# Altium footprint library Battery supply.PcbLib: 7 footprints
Each footprint in its own frame and in the unit in brackets; x right, y up, seen from the top. Pads: shape width x height; smd on the part's side, far side on the other; paste and mask are expansions set on the pad; w line width, h text height; cw(c..) or ccw(c..) is an arc to the next point about the centre after c.
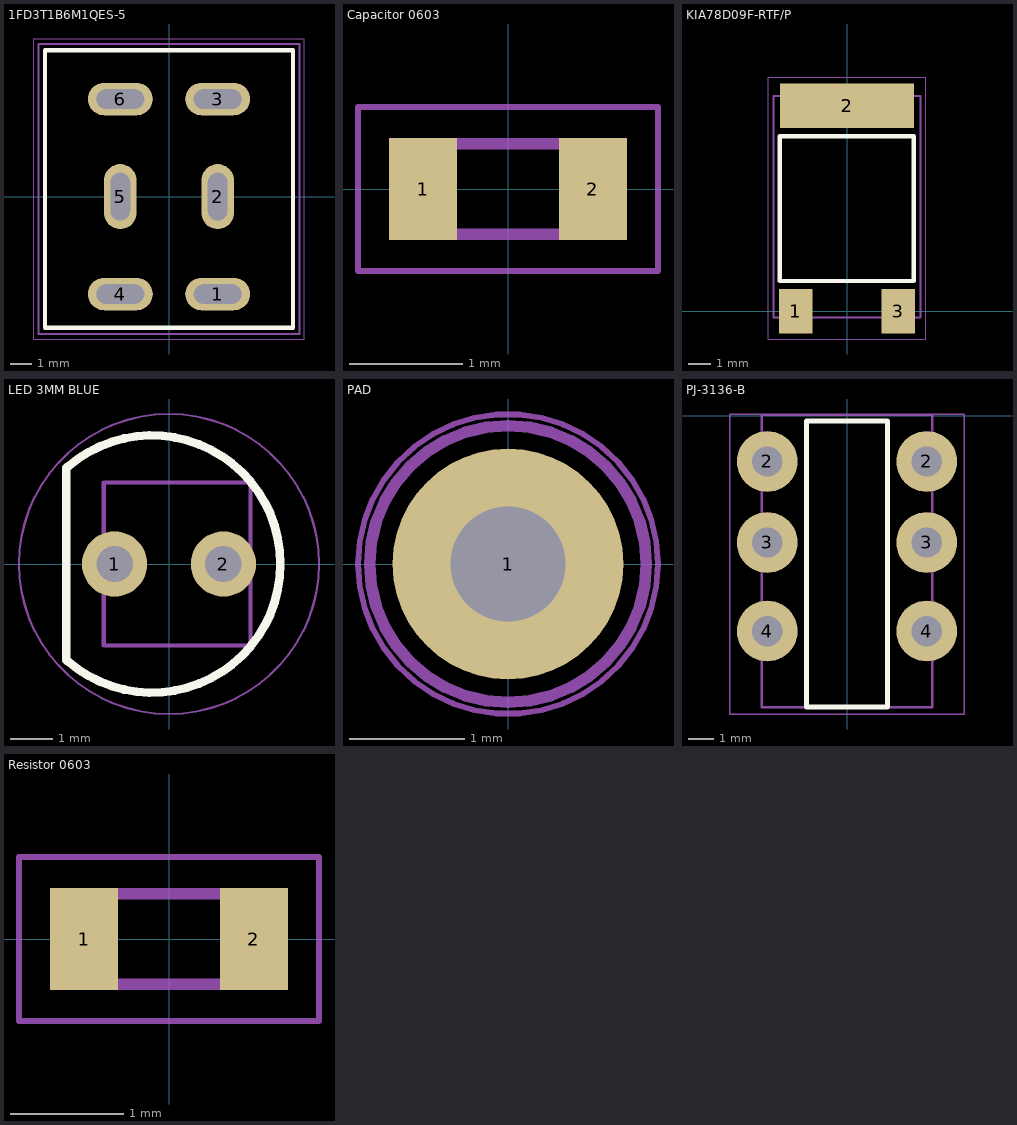
[diagram p0: the footprints below, top view; thin cyan lines are the x and y axes]

## 1FD3T1B6M1QES-5 [mm]
pads (6):
  oval 3x1.5 hole 0.9 slot 2.2 at 0 deg: 1(2.25,-4.5) 3(2.25,4.5) 4(-2.25,-4.5) 6(-2.25,4.5)
  oval 1.5x3 hole 0.9 slot 2.2 at 90 deg: 2(2.25,0) 5(-2.25,0)
Top Overlay:
  lines w0.2: -5.725,-6.05 5.725,-6.05 5.725,6.75 -5.725,6.75 -5.725,-6.05
Mechanical 13:
  lines w0.1: -6.032,-6.349 -6.032,7.05 6.031,7.05 6.031,-6.349 -6.032,-6.349
  text "'.Designator'" at 0.5,-5.4 h1.2
Mechanical 15:
  lines w0.05: -6.25,-6.575 6.25,-6.575 6.25,7.275 -6.25,7.275 -6.25,-6.575
3D body "User Library-DPDT_O_N_O.STEP": height 28.83, standoff -3.17, extent -6.032,-6.35 6.032,7.048

## Capacitor 0603 [mm]
pads (2):
  rect 0.6x0.9 smd: 1(-0.75,0) 2(0.75,0)
Mechanical 13:
  lines w0.1: -0.8,-0.4 -0.8,0.4 0.8,0.4 0.8,-0.4 -0.8,-0.4
  text "'.Designator'" at -0.701,-0.102 h0.3
Mechanical 15:
  lines w0.05: -1.325,-0.725 1.325,-0.725 1.325,0.725 -1.325,0.725 -1.325,-0.725
3D body "User Library-SMD CAPACITOR.step": height 0.8, standoff 0, extent -0.8,-0.4 0.8,0.4

## KIA78D09F-RTF/P [mm]
pads (3):
  rect 1.5x2 smd: 1(-2.3,0) 3(2.3,0)
  rect 6x2 smd: 2(0,9.2)
Top Overlay:
  lines w0.2: -3.025,1.35 3,1.35 3,7.85 -3.025,7.85 -3.025,1.35
Mechanical 13:
  lines w0.1: -3.29,-0.29 -3.29,9.65 3.29,9.65 3.29,-0.29 -3.29,-0.29
  text "'.Designator'" at 0.125,0.3 h1.2
Mechanical 15:
  lines w0.05: -3.525,-1.25 3.525,-1.25 3.525,10.475 -3.525,10.475 -3.525,-1.25
3D body "User Library-TO252-2.STEP": height 2.29, standoff 0, extent -3.29,-0.29 3.29,9.65

## LED 3MM BLUE [mil]
pads (2):
  round 60 hole 33.46: 1(-50,0) 2(50,0)
Top Overlay:
  lines w7.87: -94.49,-88.58 -94.49,0 -94.49,88.58 ; -93.24,-89.14 ccw(c-15.75,0) -93.24,89.14
Mechanical 13:
  lines w3.94: -60.04,-74.8 -60.04,74.8 74.8,74.8 74.8,-74.8 -60.04,-74.8
  text "'.Designator'" at -39.37,-9.85 h35.43
Mechanical 15:
  circle w1.97: c0,0 r137.8
3D body "everlight-3MM-LED-BLUE.step": height 379.39, standoff -115.4, extent -60.07,-74.8 74.8,74.8

## PAD [mm]
pads (1):
  round 2 hole 1: 1(0,0)
Mechanical 13:
  circle w0.1: c0,0 r1.2
Mechanical 15:
  circle w0.05: c0,0 r1.3

## PJ-3136-B [mm]
pads (6):
  round 2.4 hole 1.2: 2(-3.15,-1.8) 2(3.15,-1.8) 3(-3.15,-5) 3(3.15,-5) 4(-3.15,-8.5) 4(3.15,-8.5)
Top Overlay:
  lines w0.2: -1.6,-11.5 1.6,-11.5 1.6,-0.2 -1.6,-0.2 -1.6,-11.5
Mechanical 13:
  lines w0.1: -3.375,-11.5 -3.375,0.05 3.375,0.05 3.375,-11.5 -3.375,-11.5
  text "'.Designator'" at 0.3,-11.5 h1.2
Mechanical 15:
  lines w0.05: -4.625,-11.775 4.625,-11.775 4.625,0.075 -4.625,0.075 -4.625,-11.775
3D body "pj-3136-b.stp": height 5.5, standoff -2.5, extent -3.367,-11.5 3.367,2.5

## Resistor 0603 [mm]
pads (2):
  rect 0.6x0.9 smd: 1(-0.75,0) 2(0.75,0)
Mechanical 13:
  lines w0.1: -0.8,-0.4 -0.8,0.4 0.8,0.4 0.8,-0.4 -0.8,-0.4
  text "'.Designator'" at -0.701,-0.102 h0.3
Mechanical 15:
  lines w0.05: -1.325,-0.725 1.325,-0.725 1.325,0.725 -1.325,0.725 -1.325,-0.725
3D body "User Library-SMD RESISTOR-1.step": height 0.45, standoff -0.01, extent -0.8,-0.4 0.8,0.4